# EAGLE library part RFS-1280-1 (library PowerManagementParts)
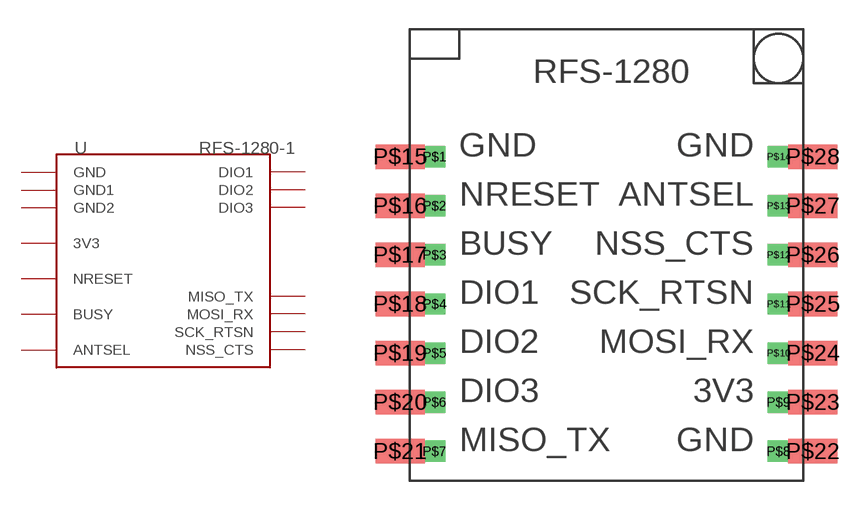
[diagram p7: symbol with the pads of RFS-1280-1; footprint RFS-1280-1]

Designator prefix -

## RFS-1280-1  [RFS-1280-1]
P$1  GND
P$2  NRESET
P$3  BUSY
P$4  DIO1
P$5  DIO2
P$6  DIO3
P$7  MISO_TX
P$8  GND1
P$9  3V3
P$10  MOSI_RX
P$11  SCK_RTSN
P$12  NSS_CTS
P$13  ANTSEL
P$14  GND2
P$15  GND
P$16  NRESET
P$17  BUSY
P$18  DIO1
P$19  DIO2
P$20  DIO3
P$21  MISO_TX
P$22  GND1
P$23  3V3
P$24  MOSI_RX
P$25  SCK_RTSN
P$26  NSS_CTS
P$27  ANTSEL
P$28  GND2

## Footprint RFS-1280-1 (pad centres in mm)
drill 0.6 square: P$1 -8.89,5.08; P$2 -8.89,2.54; P$3 -8.89,0; P$4 -8.89,-2.54; P$5 -8.89,-5.08; P$6 -8.89,-7.62; P$7 -8.89,-10.16; P$8 8.89,-10.16; P$9 8.89,-7.62; P$10 8.89,-5.08; P$11 8.89,-2.54; P$12 8.89,0; P$13 8.89,2.54; P$14 8.89,5.08
smd 2.54 x 1.27: P$15 -10.668,5.08; P$16 -10.668,2.54; P$17 -10.668,0; P$18 -10.668,-2.54; P$19 -10.668,-5.08; P$20 -10.668,-7.62; P$21 -10.668,-10.16; P$22 10.668,-10.16; P$23 10.668,-7.62; P$24 10.668,-5.08; P$25 10.668,-2.54; P$26 10.668,0; P$27 10.668,2.54; P$28 10.668,5.08